# EAGLE library part 749013011A (library 749013011A)
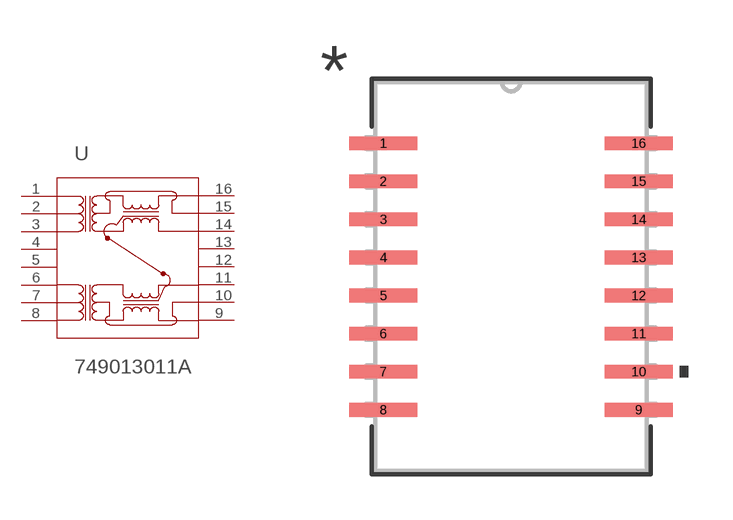
[diagram p0: symbol with the pads of LAN-TRANSFORMER_WE-LAN_POE_W00; footprint LAN-TRANSFORMER_WE-LAN_POE_W00]

Designator prefix U

## 749013011ALAN-TRANSFORMER_WE-LAN_POE_W00 (COPYRIGHT: Copyright (C) 2023 Ultra Librarian. All rights reserved.; MANUFACTURER_PART_NUMBER: 749013011A; MFR_NAME: Wurth Electronics)  [LAN-TRANSFORMER_WE-LAN_POE_W00]
1  1  pas
2  2  pas
3  3  pas
4  4  pas
5  5  pas
6  6  pas
7  7  pas
8  8  pas
9  9  pas
10  10  pas
11  11  pas
12  12  pas
13  13  pas
14  14  pas
15  15  pas
16  16  pas

## Footprint LAN-TRANSFORMER_WE-LAN_POE_W00 (pad centres in mm)
smd 2.261 x 0.457: 1 -4.255,4.445; 2 -4.255,3.175; 3 -4.255,1.905; 4 -4.255,0.635; 5 -4.255,-0.635; 6 -4.255,-1.905; 7 -4.255,-3.175; 8 -4.255,-4.445; 9 4.255,-4.445; 10 4.255,-3.175; 11 4.255,-1.905; 12 4.255,-0.635; 13 4.255,0.635; 14 4.255,1.905; 15 4.255,3.175; 16 4.255,4.445